# Altium schematic symbol library ON Semi Logic Multifunction.SchLib: 34 symbols
Pins are listed as number, name and electrical type; pins without a type are passive.

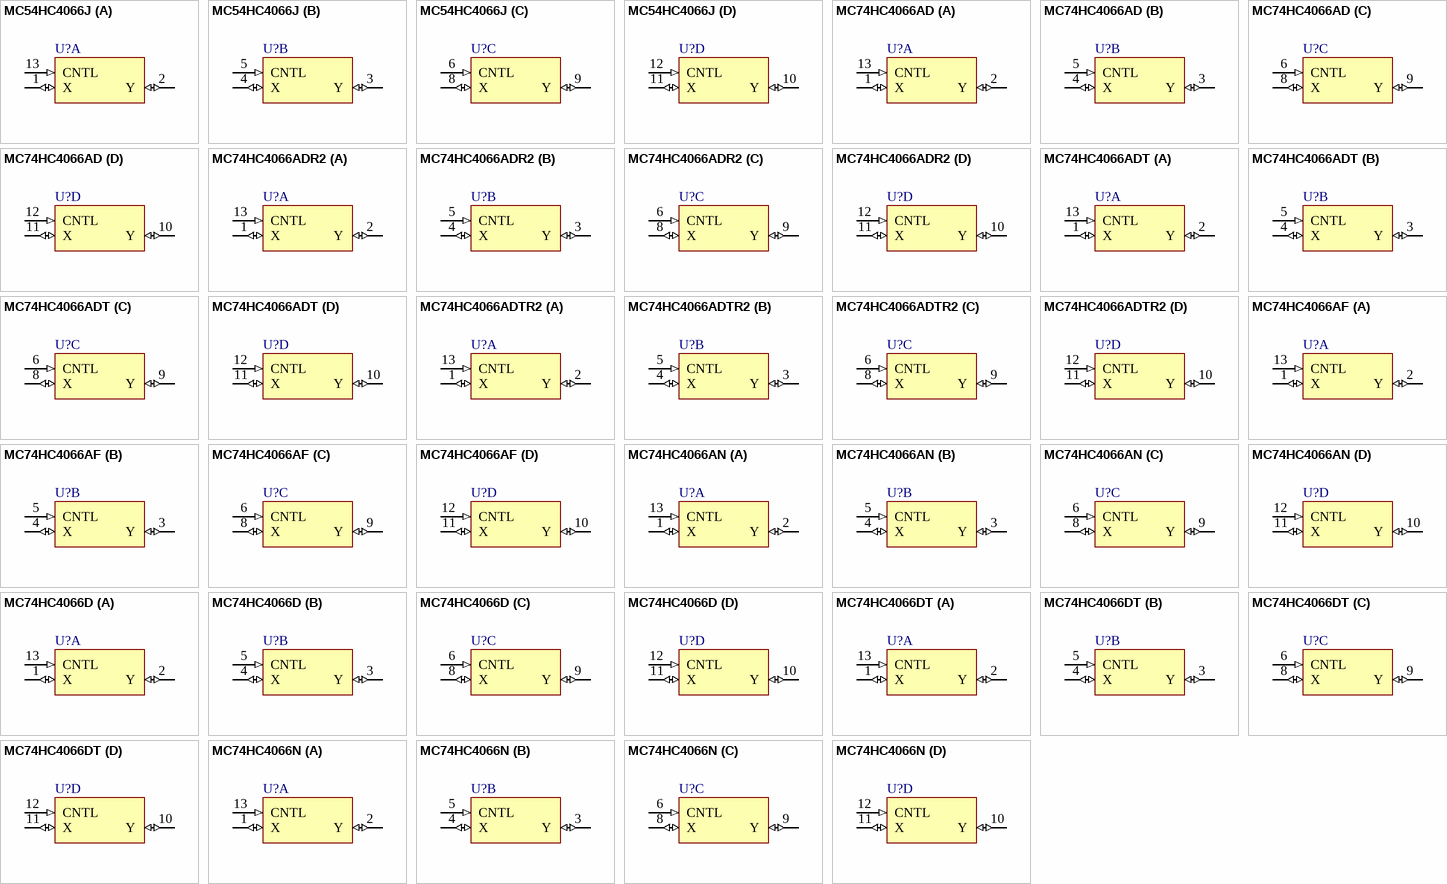
[diagram p0: symbols MC54HC4066J to MC74HC4066N]

## MC54HC4066J
designator U?
Quad Analog Switch/Multiplexer/Demultiplexer; Published: 15-Apr-2002; DatasheetVersion: 1995; PackageVersion: 1995; PackageReference: 632-08; Publisher: Altium Limited; PackageDescription: DIP; 14 Leads; Row Spacing 7.62 mm; Pitch 2.54 mm; ComponentLink1Description: Manufacturer Link; ComponentLink1URL: http://www.onsemi.com/; ComponentLink2Description: Datasheet; ComponentLink2URL: http://www.onsemi.com/pub/Collateral/MC74HC4066-D.PDF
footprint 632-08 (DIP; 14 Leads; Row Spacing 7.62 mm; Pitch 2.54 mm)
signal-integrity model MC54HC4066J
pins on every part: 7 GND (power) hidden to GND, 14 VCC (power) hidden to VCC
part A pins: 1 X (io), 2 Y (io), 13 CNTL (in)
part B pins: 3 Y (io), 4 X (io), 5 CNTL (in)
part C pins: 6 CNTL (in), 8 X (io), 9 Y (io)
part D pins: 10 Y (io), 11 X (io), 12 CNTL (in)

## MC74HC4066AD
designator U?
Quad Analog Switch/Multiplexer/Demultiplexer; Published: 15-Apr-2002; LatestRevisionDate: 13-Apr-2006; LatestRevisionNote: IPC-7351 Footprint Added.; DatasheetVersion: Mar-2000; PackageReference: 751A-03; Publisher: Altium Limited; PackageDescription: 14-Pin Small Outline Integrated Circuit 1.27 mm Pitch; Code_JEDEC: MS-012-AB; Code_IPC: SOIC127P600-14; ComponentLink1Description: Manufacturer Link; ComponentLink1URL: http://www.onsemi.com/; ComponentLink2Description: Datasheet; ComponentLink2URL: http://www.onsemi.com/pub/Collateral/MC74HC4066A-D.PDF
footprint 751A-03_N (SOIC, 14-Leads, Body 8.7x3.9mm, Pitch 1.27mm, IPC Medium Density)
footprint 751A-03_L (SOIC, 14-Leads, Body 8.7x3.9mm, Pitch 1.27mm, IPC High Density)
footprint 751A-03_M (SOIC, 14-Leads, Body 8.7x3.9mm, Pitch 1.27mm, IPC Low Density)
signal-integrity model MC74HC4066AD
pins on every part: 7 GND (power) hidden to GND, 14 VCC (power) hidden to VCC
part A pins: 1 X (io), 2 Y (io), 13 CNTL (in)
part B pins: 3 Y (io), 4 X (io), 5 CNTL (in)
part C pins: 6 CNTL (in), 8 X (io), 9 Y (io)
part D pins: 10 Y (io), 11 X (io), 12 CNTL (in)

## MC74HC4066ADR2
designator U?
Quad Analog Switch/Multiplexer/Demultiplexer; Published: 15-Apr-2002; LatestRevisionDate: 13-Apr-2006; LatestRevisionNote: IPC-7351 Footprint Added.; DatasheetVersion: Mar-2000; PackageReference: 751A-03; Publisher: Altium Limited; PackageDescription: 14-Pin Small Outline Integrated Circuit 1.27 mm Pitch; Code_JEDEC: MS-012-AB; Code_IPC: SOIC127P600-14; ComponentLink1Description: Manufacturer Link; ComponentLink1URL: http://www.onsemi.com/; ComponentLink2Description: Datasheet; ComponentLink2URL: http://www.onsemi.com/pub/Collateral/MC74HC4066A-D.PDF
footprint 751A-03_N (SOIC, 14-Leads, Body 8.7x3.9mm, Pitch 1.27mm, IPC Medium Density)
footprint 751A-03_L (SOIC, 14-Leads, Body 8.7x3.9mm, Pitch 1.27mm, IPC High Density)
footprint 751A-03_M (SOIC, 14-Leads, Body 8.7x3.9mm, Pitch 1.27mm, IPC Low Density)
signal-integrity model MC74HC4066ADR2
pins on every part: 7 GND (power) hidden to GND, 14 VCC (power) hidden to VCC
part A pins: 1 X (io), 2 Y (io), 13 CNTL (in)
part B pins: 3 Y (io), 4 X (io), 5 CNTL (in)
part C pins: 6 CNTL (in), 8 X (io), 9 Y (io)
part D pins: 10 Y (io), 11 X (io), 12 CNTL (in)

## MC74HC4066ADT
designator U?
Quad Analog Switch/Multiplexer/Demultiplexer; ComponentAvailability: Not for New Design; Published: 15-Apr-2002; LatestRevisionDate: 12-Dec-2006; LatestRevisionNote: IPC-7351 Footprint Added.; DatasheetVersion: Mar-2000; PackageVersion: 1998; PackageReference: 948G-01; Publisher: Altium Limited; PackageDescription: 14-Pin Thin Small Outline Package 0.65 mm Pitch; ComponentLink1Description: Manufacturer Link; ComponentLink1URL: http://www.onsemi.com/; ComponentLink2Description: Datasheet; ComponentLink2URL: http://www.onsemi.com/pub/Collateral/MC74HC4066A-D.PDF
footprint 948G-01_N (TSOP, 14-Leads, Body 5x4.4mm, Pitch 0.65mm, IPC Medium Density)
footprint 948G-01_L (TSOP, 14-Leads, Body 5x4.4mm, Pitch 0.65mm, IPC High Density)
footprint 948G-01_M (TSOP, 14-Leads, Body 5x4.4mm, Pitch 0.65mm, IPC Low Density)
signal-integrity model MC74HC4066ADT
pins on every part: 7 GND (power) hidden to GND, 14 VCC (power) hidden to VCC
part A pins: 1 X (io), 2 Y (io), 13 CNTL (in)
part B pins: 3 Y (io), 4 X (io), 5 CNTL (in)
part C pins: 6 CNTL (in), 8 X (io), 9 Y (io)
part D pins: 10 Y (io), 11 X (io), 12 CNTL (in)

## MC74HC4066ADTR2
designator U?
Quad Analog Switch/Multiplexer/Demultiplexer; Published: 15-Apr-2002; LatestRevisionDate: 12-Dec-2006; LatestRevisionNote: IPC-7351 Footprint Added.; DatasheetVersion: Mar-2000; PackageVersion: 1998; PackageReference: 948G-01; Publisher: Altium Limited; PackageDescription: 14-Pin Thin Small Outline Package 0.65 mm Pitch; ComponentLink1Description: Manufacturer Link; ComponentLink1URL: http://www.onsemi.com/; ComponentLink2Description: Datasheet; ComponentLink2URL: http://www.onsemi.com/pub/Collateral/MC74HC4066A-D.PDF
footprint 948G-01_N (TSOP, 14-Leads, Body 5x4.4mm, Pitch 0.65mm, IPC Medium Density)
footprint 948G-01_L (TSOP, 14-Leads, Body 5x4.4mm, Pitch 0.65mm, IPC High Density)
footprint 948G-01_M (TSOP, 14-Leads, Body 5x4.4mm, Pitch 0.65mm, IPC Low Density)
signal-integrity model MC74HC4066ADTR2
pins on every part: 7 GND (power) hidden to GND, 14 VCC (power) hidden to VCC
part A pins: 1 X (io), 2 Y (io), 13 CNTL (in)
part B pins: 3 Y (io), 4 X (io), 5 CNTL (in)
part C pins: 6 CNTL (in), 8 X (io), 9 Y (io)
part D pins: 10 Y (io), 11 X (io), 12 CNTL (in)

## MC74HC4066AF
designator U?
Quad Analog Switch/Multiplexer/Demultiplexer; ComponentAvailability: Not for New Design; Published: 15-Apr-2002; LatestRevisionDate: 13-Apr-2006; LatestRevisionNote: IPC-7351 Footprint Added.; DatasheetVersion: Mar-2000; PackageVersion: 1996; PackageReference: 965-01; Publisher: Altium Limited; PackageDescription: 14-Pin Small Outline Package 1.27 mm Pitch; ComponentLink1Description: Manufacturer Link; ComponentLink1URL: http://www.onsemi.com/; ComponentLink2Description: Datasheet; ComponentLink2URL: http://www.onsemi.com/pub/Collateral/MC74HC4066A-D.PDF
footprint 965-01_N (SOP, 14-Leads, Body 10.2x5.3mm, Pitch 1.27mm, IPC Medium Density)
footprint 965-01_L (SOP, 14-Leads, Body 10.2x5.3mm, Pitch 1.27mm, IPC High Density)
footprint 965-01_M (SOP, 14-Leads, Body 10.2x5.3mm, Pitch 1.27mm, IPC Low Density)
signal-integrity model MC74HC4066AF
pins on every part: 7 GND (power) hidden to GND, 14 VCC (power) hidden to VCC
part A pins: 1 X (io), 2 Y (io), 13 CNTL (in)
part B pins: 3 Y (io), 4 X (io), 5 CNTL (in)
part C pins: 6 CNTL (in), 8 X (io), 9 Y (io)
part D pins: 10 Y (io), 11 X (io), 12 CNTL (in)

## MC74HC4066AN
designator U?
Quad Analog Switch/Multiplexer/Demultiplexer; Published: 15-Apr-2002; DatasheetVersion: Mar-2000; PackageVersion: 1995; PackageReference: 646-06; Publisher: Altium Limited; PackageDescription: DIP; 14 Leads; Row Spacing 7.62 mm; Pitch 2.54 mm; ComponentLink1Description: Manufacturer Link; ComponentLink1URL: http://www.onsemi.com/; ComponentLink2Description: Datasheet; ComponentLink2URL: http://www.onsemi.com/pub/Collateral/MC74HC4066A-D.PDF
footprint 646-06 (DIP; 14 Leads; Row Spacing 7.62 mm; Pitch 2.54 mm)
signal-integrity model MC74HC4066AN
pins on every part: 7 GND (power) hidden to GND, 14 VCC (power) hidden to VCC
part A pins: 1 X (io), 2 Y (io), 13 CNTL (in)
part B pins: 3 Y (io), 4 X (io), 5 CNTL (in)
part C pins: 6 CNTL (in), 8 X (io), 9 Y (io)
part D pins: 10 Y (io), 11 X (io), 12 CNTL (in)

## MC74HC4066D
designator U?
Quad Analog Switch/Multiplexer/Demultiplexer; Published: 15-Apr-2002; LatestRevisionDate: 13-Apr-2006; LatestRevisionNote: IPC-7351 Footprint Added.; DatasheetVersion: 1995; PackageReference: 751A-03; Publisher: Altium Limited; PackageDescription: 14-Pin Small Outline Integrated Circuit 1.27 mm Pitch; Code_JEDEC: MS-012-AB; Code_IPC: SOIC127P600-14; ComponentLink1Description: Manufacturer Link; ComponentLink1URL: http://www.onsemi.com/; ComponentLink2Description: Datasheet; ComponentLink2URL: http://www.onsemi.com/pub/Collateral/MC74HC4066-D.PDF
footprint 751A-03_N (SOIC, 14-Leads, Body 8.7x3.9mm, Pitch 1.27mm, IPC Medium Density)
footprint 751A-03_L (SOIC, 14-Leads, Body 8.7x3.9mm, Pitch 1.27mm, IPC High Density)
footprint 751A-03_M (SOIC, 14-Leads, Body 8.7x3.9mm, Pitch 1.27mm, IPC Low Density)
signal-integrity model MC74HC4066D
pins on every part: 7 GND (power) hidden to GND, 14 VCC (power) hidden to VCC
part A pins: 1 X (io), 2 Y (io), 13 CNTL (in)
part B pins: 3 Y (io), 4 X (io), 5 CNTL (in)
part C pins: 6 CNTL (in), 8 X (io), 9 Y (io)
part D pins: 10 Y (io), 11 X (io), 12 CNTL (in)

## MC74HC4066DT
designator U?
Quad Analog Switch/Multiplexer/Demultiplexer; Published: 15-Apr-2002; LatestRevisionDate: 12-Dec-2006; LatestRevisionNote: IPC-7351 Footprint Added.; DatasheetVersion: 1995; PackageVersion: 1998; PackageReference: 948G-01; Publisher: Altium Limited; PackageDescription: 14-Pin Thin Small Outline Package 0.65 mm Pitch; ComponentLink1Description: Manufacturer Link; ComponentLink1URL: http://www.onsemi.com/; ComponentLink2Description: Datasheet; ComponentLink2URL: http://www.onsemi.com/pub/Collateral/MC74HC4066-D.PDF
footprint 948G-01_N (TSOP, 14-Leads, Body 5x4.4mm, Pitch 0.65mm, IPC Medium Density)
footprint 948G-01_L (TSOP, 14-Leads, Body 5x4.4mm, Pitch 0.65mm, IPC High Density)
footprint 948G-01_M (TSOP, 14-Leads, Body 5x4.4mm, Pitch 0.65mm, IPC Low Density)
signal-integrity model MC74HC4066DT
pins on every part: 7 GND (power) hidden to GND, 14 VCC (power) hidden to VCC
part A pins: 1 X (io), 2 Y (io), 13 CNTL (in)
part B pins: 3 Y (io), 4 X (io), 5 CNTL (in)
part C pins: 6 CNTL (in), 8 X (io), 9 Y (io)
part D pins: 10 Y (io), 11 X (io), 12 CNTL (in)

## MC74HC4066N
designator U?
Quad Analog Switch/Multiplexer/Demultiplexer; Published: 15-Apr-2002; DatasheetVersion: 1995; PackageVersion: 1995; PackageReference: 646-06; Publisher: Altium Limited; PackageDescription: DIP; 14 Leads; Row Spacing 7.62 mm; Pitch 2.54 mm; ComponentLink1Description: Manufacturer Link; ComponentLink1URL: http://www.onsemi.com/; ComponentLink2Description: Datasheet; ComponentLink2URL: http://www.onsemi.com/pub/Collateral/MC74HC4066-D.PDF
footprint 646-06 (DIP; 14 Leads; Row Spacing 7.62 mm; Pitch 2.54 mm)
signal-integrity model MC74HC4066N
pins on every part: 7 GND (power) hidden to GND, 14 VCC (power) hidden to VCC
part A pins: 1 X (io), 2 Y (io), 13 CNTL (in)
part B pins: 3 Y (io), 4 X (io), 5 CNTL (in)
part C pins: 6 CNTL (in), 8 X (io), 9 Y (io)
part D pins: 10 Y (io), 11 X (io), 12 CNTL (in)

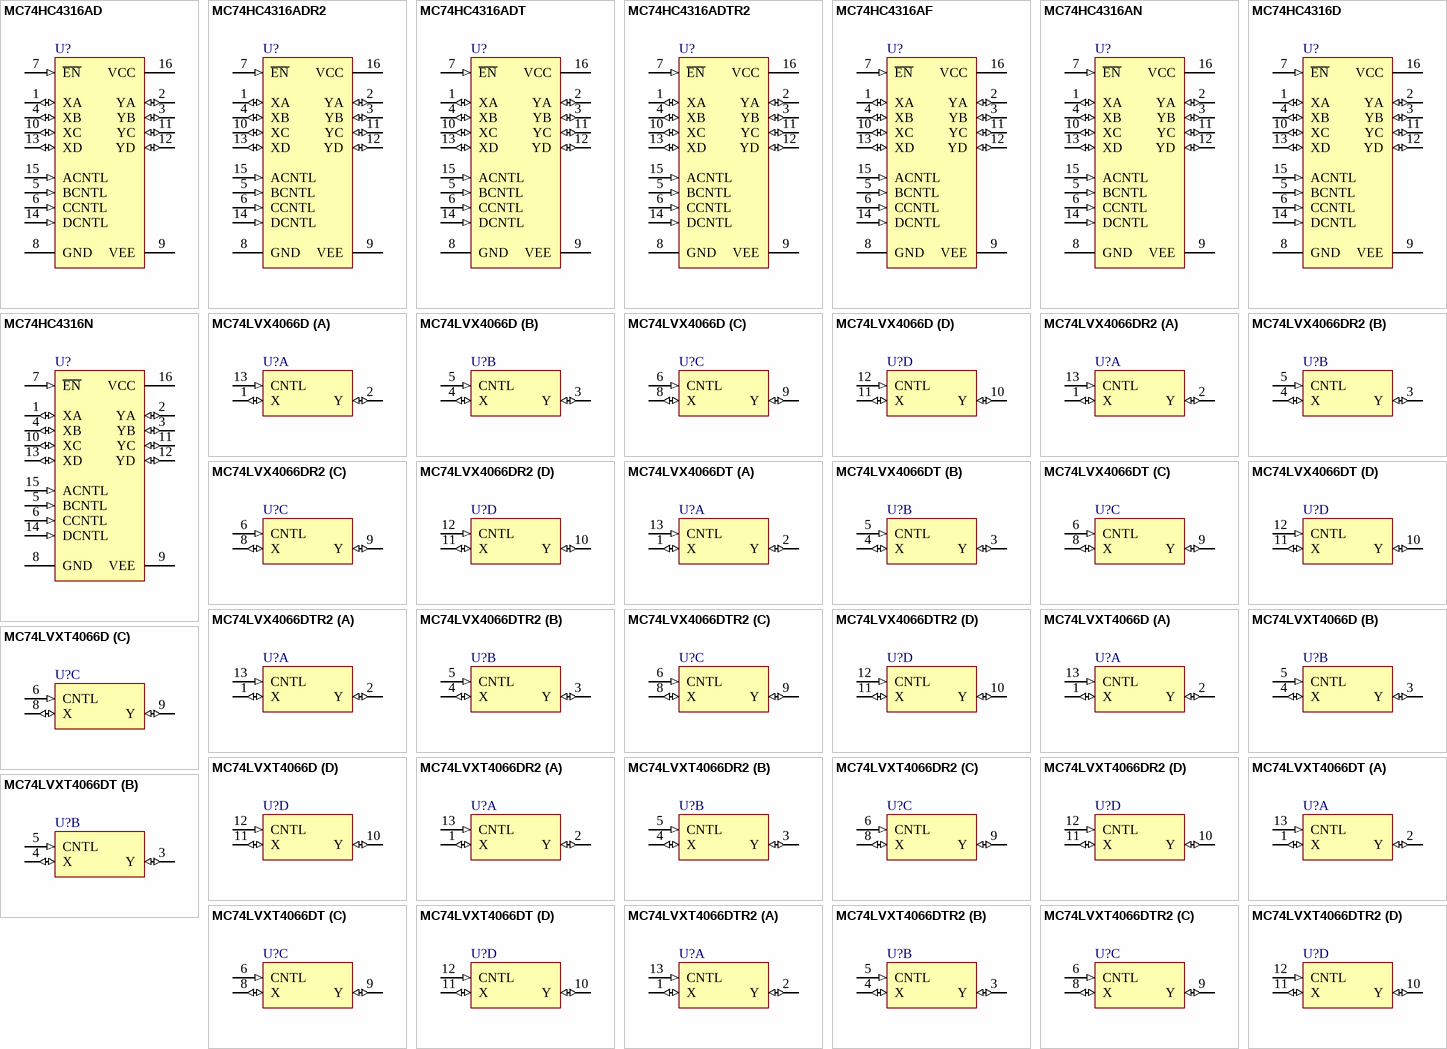
[diagram p1: symbols MC74HC4316AD to MC74LVXT4066DTR2]

## MC74HC4316AD
designator U?
Quad Analog Switch/Multiplexer/Demultiplexer with Separate Analog and Digital Power Supplies; Note: Unused inputs must always be tied.  Unused outputs must be left open.; ComponentAvailability: Not for New Design; Published: 15-Apr-2002; LatestRevisionDate: 13-Apr-2006; LatestRevisionNote: IPC-7351 Footprint Added.; DatasheetVersion: Mar-2000; PackageVersion: Oct-1999; PackageReference: 751B-05; Publisher: Altium Limited; PackageDescription: 16-Pin Small Outline Integrated Circuit 1.27 mm Pitch; Code_JEDEC: MS-012-AC; Code_IPC: SOIC127P600-16; ComponentLink1Description: Manufacturer Link; ComponentLink1URL: http://www.onsemi.com/; ComponentLink2Description: Datasheet; ComponentLink2URL: http://www.onsemi.com/pub/Collateral/MC74HC4316A-D.PDF
footprint 751B-05_N (SOIC, 16-Leads, Body 9.9x3.9mm, Pitch 1.27mm, IPC Medium Density)
footprint 751B-05_L (SOIC, 16-Leads, Body 9.9x3.9mm, Pitch 1.27mm, IPC High Density)
footprint 751B-05_M (SOIC, 16-Leads, Body 9.9x3.9mm, Pitch 1.27mm, IPC Low Density)
signal-integrity model MC74HC4316AD
pins: 1 XA (io), 2 YA (io), 3 YB (io), 4 XB (io), 5 BCNTL (in), 6 CCNTL (in), 7 ~{EN} (in), 8 GND (power), 9 VEE (power), 10 XC (io), 11 YC (io), 12 YD (io), 13 XD (io), 14 DCNTL (in), 15 ACNTL (in), 16 VCC (power)

## MC74HC4316ADR2
designator U?
Quad Analog Switch/Multiplexer/Demultiplexer with Separate Analog and Digital Power Supplies; Note: Unused inputs must always be tied.  Unused outputs must be left open.; Published: 15-Apr-2002; LatestRevisionDate: 13-Apr-2006; LatestRevisionNote: IPC-7351 Footprint Added.; DatasheetVersion: Mar-2000; PackageVersion: Oct-1999; PackageReference: 751B-05; Publisher: Altium Limited; PackageDescription: 16-Pin Small Outline Integrated Circuit 1.27 mm Pitch; Code_JEDEC: MS-012-AC; Code_IPC: SOIC127P600-16; ComponentLink1Description: Manufacturer Link; ComponentLink1URL: http://www.onsemi.com/; ComponentLink2Description: Datasheet; ComponentLink2URL: http://www.onsemi.com/pub/Collateral/MC74HC4316A-D.PDF
footprint 751B-05_N (SOIC, 16-Leads, Body 9.9x3.9mm, Pitch 1.27mm, IPC Medium Density)
footprint 751B-05_L (SOIC, 16-Leads, Body 9.9x3.9mm, Pitch 1.27mm, IPC High Density)
footprint 751B-05_M (SOIC, 16-Leads, Body 9.9x3.9mm, Pitch 1.27mm, IPC Low Density)
signal-integrity model MC74HC4316ADR2
pins: 1 XA (io), 2 YA (io), 3 YB (io), 4 XB (io), 5 BCNTL (in), 6 CCNTL (in), 7 ~{EN} (in), 8 GND (power), 9 VEE (power), 10 XC (io), 11 YC (io), 12 YD (io), 13 XD (io), 14 DCNTL (in), 15 ACNTL (in), 16 VCC (power)

## MC74HC4316ADT
designator U?
Quad Analog Switch/Multiplexer/Demultiplexer with Separate Analog and Digital Power Supplies; Note: Unused inputs must always be tied.  Unused outputs must be left open.; Published: 15-Apr-2002; LatestRevisionDate: 12-Dec-2006; LatestRevisionNote: IPC-7351 Footprint Added.; DatasheetVersion: Mar-2000; PackageVersion: Feb-2000; PackageReference: 948F-01; Publisher: Altium Limited; PackageDescription: 16-Pin Thin Small Outline Package 0.65 mm Pitch; ComponentLink1Description: Manufacturer Link; ComponentLink1URL: http://www.onsemi.com/; ComponentLink2Description: Datasheet; ComponentLink2URL: http://www.onsemi.com/pub/Collateral/MC74HC4316A-D.PDF
footprint 948F-01_N (TSOP, 16-Leads, Body 5x4.4mm, Pitch 0.65mm, IPC Medium Density)
footprint 948F-01_L (TSOP, 16-Leads, Body 5x4.4mm, Pitch 0.65mm, IPC High Density)
footprint 948F-01_M (TSOP, 16-Leads, Body 5x4.4mm, Pitch 0.65mm, IPC Low Density)
signal-integrity model MC74HC4316ADT
pins: 1 XA (io), 2 YA (io), 3 YB (io), 4 XB (io), 5 BCNTL (in), 6 CCNTL (in), 7 ~{EN} (in), 8 GND (power), 9 VEE (power), 10 XC (io), 11 YC (io), 12 YD (io), 13 XD (io), 14 DCNTL (in), 15 ACNTL (in), 16 VCC (power)

## MC74HC4316ADTR2
designator U?
Quad Analog Switch/Multiplexer/Demultiplexer with Separate Analog and Digital Power Supplies; Note: Unused inputs must always be tied.  Unused outputs must be left open.; Published: 15-Apr-2002; LatestRevisionDate: 12-Dec-2006; LatestRevisionNote: IPC-7351 Footprint Added.; DatasheetVersion: Mar-2000; PackageVersion: Feb-2000; PackageReference: 948F-01; Publisher: Altium Limited; PackageDescription: 16-Pin Thin Small Outline Package 0.65 mm Pitch; ComponentLink1Description: Manufacturer Link; ComponentLink1URL: http://www.onsemi.com/; ComponentLink2Description: Datasheet; ComponentLink2URL: http://www.onsemi.com/pub/Collateral/MC74HC4316A-D.PDF
footprint 948F-01_N (TSOP, 16-Leads, Body 5x4.4mm, Pitch 0.65mm, IPC Medium Density)
footprint 948F-01_L (TSOP, 16-Leads, Body 5x4.4mm, Pitch 0.65mm, IPC High Density)
footprint 948F-01_M (TSOP, 16-Leads, Body 5x4.4mm, Pitch 0.65mm, IPC Low Density)
signal-integrity model MC74HC4316ADTR2
pins: 1 XA (io), 2 YA (io), 3 YB (io), 4 XB (io), 5 BCNTL (in), 6 CCNTL (in), 7 ~{EN} (in), 8 GND (power), 9 VEE (power), 10 XC (io), 11 YC (io), 12 YD (io), 13 XD (io), 14 DCNTL (in), 15 ACNTL (in), 16 VCC (power)

## MC74HC4316AF
designator U?
Quad Analog Switch/Multiplexer/Demultiplexer with Separate Analog and Digital Power Supplies; Note: Unused inputs must always be tied.  Unused outputs must be left open.; Published: 15-Apr-2002; LatestRevisionDate: 13-Apr-2006; LatestRevisionNote: IPC-7351 Footprint Added.; DatasheetVersion: Mar-2000; PackageVersion: 1997; PackageReference: 966-01; Publisher: Altium Limited; PackageDescription: 16-Pin Small Outline Package 1.27 mm Pitch; ComponentLink1Description: Manufacturer Link; ComponentLink1URL: http://www.onsemi.com/; ComponentLink2Description: Datasheet; ComponentLink2URL: http://www.onsemi.com/pub/Collateral/MC74HC4316A-D.PDF
footprint 966-01_N (SOP, 16-Leads, Body 10.2x5.3mm, Pitch 1.27mm, IPC Medium Density)
footprint 966-01_L (SOP, 16-Leads, Body 10.2x5.3mm, Pitch 1.27mm, IPC High Density)
footprint 966-01_M (SOP, 16-Leads, Body 10.2x5.3mm, Pitch 1.27mm, IPC Low Density)
signal-integrity model MC74HC4316AF
pins: 1 XA (io), 2 YA (io), 3 YB (io), 4 XB (io), 5 BCNTL (in), 6 CCNTL (in), 7 ~{EN} (in), 8 GND (power), 9 VEE (power), 10 XC (io), 11 YC (io), 12 YD (io), 13 XD (io), 14 DCNTL (in), 15 ACNTL (in), 16 VCC (power)

## MC74HC4316AN
designator U?
Quad Analog Switch/Multiplexer/Demultiplexer with Separate Analog and Digital Power Supplies; Note: Unused inputs must always be tied.  Unused outputs must be left open.; Published: 15-Apr-2002; DatasheetVersion: Mar-2000; PackageVersion: Apr-2000; PackageReference: 648-08; Publisher: Altium Limited; PackageDescription: DIP; 16 Leads; Row Spacing 7.62 mm; Pitch 2.54 mm; Code_JEDEC: MS-001-BB; ComponentLink1Description: Manufacturer Link; ComponentLink1URL: http://www.onsemi.com/; ComponentLink2Description: Datasheet; ComponentLink2URL: http://www.onsemi.com/pub/Collateral/MC74HC4316A-D.PDF
footprint 648-08 (DIP; 16 Leads; Row Spacing 7.62 mm; Pitch 2.54 mm)
signal-integrity model MC74HC4316AN
pins: 1 XA (io), 2 YA (io), 3 YB (io), 4 XB (io), 5 BCNTL (in), 6 CCNTL (in), 7 ~{EN} (in), 8 GND (power), 9 VEE (power), 10 XC (io), 11 YC (io), 12 YD (io), 13 XD (io), 14 DCNTL (in), 15 ACNTL (in), 16 VCC (power)

## MC74HC4316D
designator U?
Quad Analog Switch/Multiplexer/Demultiplexer with Separate Analog and Digital Power Supplies; Published: 15-Apr-2002; LatestRevisionDate: 13-Apr-2006; LatestRevisionNote: IPC-7351 Footprint Added.; DatasheetVersion: Oct-1995; PackageVersion: Oct-1999; PackageReference: 751B-05; Publisher: Altium Limited; PackageDescription: 16-Pin Small Outline Integrated Circuit 1.27 mm Pitch; Code_JEDEC: MS-012-AC; Code_IPC: SOIC127P600-16; ComponentLink1Description: Manufacturer Link; ComponentLink1URL: http://www.onsemi.com/; ComponentLink2Description: Datasheet; ComponentLink2URL: http://www.onsemi.com/pub/Collateral/MC74HC4316-D.PDF
footprint 751B-05_N (SOIC, 16-Leads, Body 9.9x3.9mm, Pitch 1.27mm, IPC Medium Density)
footprint 751B-05_L (SOIC, 16-Leads, Body 9.9x3.9mm, Pitch 1.27mm, IPC High Density)
footprint 751B-05_M (SOIC, 16-Leads, Body 9.9x3.9mm, Pitch 1.27mm, IPC Low Density)
signal-integrity model MC74HC4316D
pins: 1 XA (io), 2 YA (io), 3 YB (io), 4 XB (io), 5 BCNTL (in), 6 CCNTL (in), 7 ~{EN} (in), 8 GND (power), 9 VEE (power), 10 XC (io), 11 YC (io), 12 YD (io), 13 XD (io), 14 DCNTL (in), 15 ACNTL (in), 16 VCC (power)

## MC74HC4316N
designator U?
Quad Analog Switch/Multiplexer/Demultiplexer with Separate Analog and Digital Power Supplies; Published: 15-Apr-2002; DatasheetVersion: Oct-1995; PackageVersion: Apr-2000; PackageReference: 648-08; Publisher: Altium Limited; PackageDescription: DIP; 16 Leads; Row Spacing 7.62 mm; Pitch 2.54 mm; Code_JEDEC: MS-001-BB; ComponentLink1Description: Manufacturer Link; ComponentLink1URL: http://www.onsemi.com/; ComponentLink2Description: Datasheet; ComponentLink2URL: http://www.onsemi.com/pub/Collateral/MC74HC4316-D.PDF
footprint 648-08 (DIP; 16 Leads; Row Spacing 7.62 mm; Pitch 2.54 mm)
signal-integrity model MC74HC4316N
pins: 1 XA (io), 2 YA (io), 3 YB (io), 4 XB (io), 5 BCNTL (in), 6 CCNTL (in), 7 ~{EN} (in), 8 GND (power), 9 VEE (power), 10 XC (io), 11 YC (io), 12 YD (io), 13 XD (io), 14 DCNTL (in), 15 ACNTL (in), 16 VCC (power)

## MC74LVX4066D
designator U?
Quad Analog Switch/Multiplexer/Demultiplexer; ComponentAvailability: Not for New Design; Published: 15-Apr-2002; LatestRevisionDate: 13-Apr-2006; LatestRevisionNote: IPC-7351 Footprint Added.; DatasheetVersion: Mar-2000; PackageReference: 751A-03; Publisher: Altium Limited; PackageDescription: 14-Pin Small Outline Integrated Circuit 1.27 mm Pitch; Code_JEDEC: MS-012-AB; Code_IPC: SOIC127P600-14; ComponentLink1Description: Manufacturer Link; ComponentLink1URL: http://www.onsemi.com/; ComponentLink2Description: Datasheet; ComponentLink2URL: http://www.onsemi.com/pub/Collateral/MC74LVX4066-D.PDF
footprint 751A-03_N (SOIC, 14-Leads, Body 8.7x3.9mm, Pitch 1.27mm, IPC Medium Density)
footprint 751A-03_L (SOIC, 14-Leads, Body 8.7x3.9mm, Pitch 1.27mm, IPC High Density)
footprint 751A-03_M (SOIC, 14-Leads, Body 8.7x3.9mm, Pitch 1.27mm, IPC Low Density)
pins on every part: 7 GND (power) hidden to GND, 14 VCC (power) hidden to VCC
part A pins: 1 X (io), 2 Y (io), 13 CNTL (in)
part B pins: 3 Y (io), 4 X (io), 5 CNTL (in)
part C pins: 6 CNTL (in), 8 X (io), 9 Y (io)
part D pins: 10 Y (io), 11 X (io), 12 CNTL (in)

## MC74LVX4066DR2
designator U?
Quad Analog Switch/Multiplexer/Demultiplexer; Published: 15-Apr-2002; LatestRevisionDate: 13-Apr-2006; LatestRevisionNote: IPC-7351 Footprint Added.; DatasheetVersion: Mar-2000; PackageReference: 751A-03; Publisher: Altium Limited; PackageDescription: 14-Pin Small Outline Integrated Circuit 1.27 mm Pitch; Code_JEDEC: MS-012-AB; Code_IPC: SOIC127P600-14; ComponentLink1Description: Manufacturer Link; ComponentLink1URL: http://www.onsemi.com/; ComponentLink2Description: Datasheet; ComponentLink2URL: http://www.onsemi.com/pub/Collateral/MC74LVX4066-D.PDF
footprint 751A-03_N (SOIC, 14-Leads, Body 8.7x3.9mm, Pitch 1.27mm, IPC Medium Density)
footprint 751A-03_L (SOIC, 14-Leads, Body 8.7x3.9mm, Pitch 1.27mm, IPC High Density)
footprint 751A-03_M (SOIC, 14-Leads, Body 8.7x3.9mm, Pitch 1.27mm, IPC Low Density)
pins on every part: 7 GND (power) hidden to GND, 14 VCC (power) hidden to VCC
part A pins: 1 X (io), 2 Y (io), 13 CNTL (in)
part B pins: 3 Y (io), 4 X (io), 5 CNTL (in)
part C pins: 6 CNTL (in), 8 X (io), 9 Y (io)
part D pins: 10 Y (io), 11 X (io), 12 CNTL (in)

## MC74LVX4066DT
designator U?
Quad Analog Switch/Multiplexer/Demultiplexer; ComponentAvailability: Not for New Design; Published: 15-Apr-2002; LatestRevisionDate: 12-Dec-2006; LatestRevisionNote: IPC-7351 Footprint Added.; DatasheetVersion: Mar-2000; PackageVersion: 1998; PackageReference: 948G-01; Publisher: Altium Limited; PackageDescription: 14-Pin Thin Small Outline Package 0.65 mm Pitch; ComponentLink1Description: Manufacturer Link; ComponentLink1URL: http://www.onsemi.com/; ComponentLink2Description: Datasheet; ComponentLink2URL: http://www.onsemi.com/pub/Collateral/MC74LVX4066-D.PDF
footprint 948G-01_N (TSOP, 14-Leads, Body 5x4.4mm, Pitch 0.65mm, IPC Medium Density)
footprint 948G-01_L (TSOP, 14-Leads, Body 5x4.4mm, Pitch 0.65mm, IPC High Density)
footprint 948G-01_M (TSOP, 14-Leads, Body 5x4.4mm, Pitch 0.65mm, IPC Low Density)
pins on every part: 7 GND (power) hidden to GND, 14 VCC (power) hidden to VCC
part A pins: 1 X (io), 2 Y (io), 13 CNTL (in)
part B pins: 3 Y (io), 4 X (io), 5 CNTL (in)
part C pins: 6 CNTL (in), 8 X (io), 9 Y (io)
part D pins: 10 Y (io), 11 X (io), 12 CNTL (in)

## MC74LVX4066DTR2
designator U?
Quad Analog Switch/Multiplexer/Demultiplexer; Published: 15-Apr-2002; LatestRevisionDate: 12-Dec-2006; LatestRevisionNote: IPC-7351 Footprint Added.; DatasheetVersion: Mar-2000; PackageVersion: 1998; PackageReference: 948G-01; Publisher: Altium Limited; PackageDescription: 14-Pin Thin Small Outline Package 0.65 mm Pitch; ComponentLink1Description: Manufacturer Link; ComponentLink1URL: http://www.onsemi.com/; ComponentLink2Description: Datasheet; ComponentLink2URL: http://www.onsemi.com/pub/Collateral/MC74LVX4066-D.PDF
footprint 948G-01_N (TSOP, 14-Leads, Body 5x4.4mm, Pitch 0.65mm, IPC Medium Density)
footprint 948G-01_L (TSOP, 14-Leads, Body 5x4.4mm, Pitch 0.65mm, IPC High Density)
footprint 948G-01_M (TSOP, 14-Leads, Body 5x4.4mm, Pitch 0.65mm, IPC Low Density)
pins on every part: 7 GND (power) hidden to GND, 14 VCC (power) hidden to VCC
part A pins: 1 X (io), 2 Y (io), 13 CNTL (in)
part B pins: 3 Y (io), 4 X (io), 5 CNTL (in)
part C pins: 6 CNTL (in), 8 X (io), 9 Y (io)
part D pins: 10 Y (io), 11 X (io), 12 CNTL (in)

## MC74LVXT4066D
designator U?
Quad Analog Switch/Multiplexer/Demultiplexer; Published: 15-Apr-2002; LatestRevisionDate: 13-Apr-2006; LatestRevisionNote: IPC-7351 Footprint Added.; DatasheetVersion: Mar-2000; PackageReference: 751A-03; Publisher: Altium Limited; PackageDescription: 14-Pin Small Outline Integrated Circuit 1.27 mm Pitch; Code_JEDEC: MS-012-AB; Code_IPC: SOIC127P600-14; ComponentLink1Description: Manufacturer Link; ComponentLink1URL: http://www.onsemi.com/; ComponentLink2Description: Datasheet; ComponentLink2URL: http://www.onsemi.com/pub/Collateral/MC74LVXT4066-D.PDF
footprint 751A-03_N (SOIC, 14-Leads, Body 8.7x3.9mm, Pitch 1.27mm, IPC Medium Density)
footprint 751A-03_L (SOIC, 14-Leads, Body 8.7x3.9mm, Pitch 1.27mm, IPC High Density)
footprint 751A-03_M (SOIC, 14-Leads, Body 8.7x3.9mm, Pitch 1.27mm, IPC Low Density)
pins on every part: 7 GND (power) hidden to GND, 14 VCC (power) hidden to VCC
part A pins: 1 X (io), 2 Y (io), 13 CNTL (in)
part B pins: 3 Y (io), 4 X (io), 5 CNTL (in)
part C pins: 6 CNTL (in), 8 X (io), 9 Y (io)
part D pins: 10 Y (io), 11 X (io), 12 CNTL (in)

## MC74LVXT4066DR2
designator U?
Quad Analog Switch/Multiplexer/Demultiplexer; Published: 15-Apr-2002; LatestRevisionDate: 13-Apr-2006; LatestRevisionNote: IPC-7351 Footprint Added.; DatasheetVersion: Mar-2000; PackageReference: 751A-03; Publisher: Altium Limited; PackageDescription: 14-Pin Small Outline Integrated Circuit 1.27 mm Pitch; Code_JEDEC: MS-012-AB; Code_IPC: SOIC127P600-14; ComponentLink1Description: Manufacturer Link; ComponentLink1URL: http://www.onsemi.com/; ComponentLink2Description: Datasheet; ComponentLink2URL: http://www.onsemi.com/pub/Collateral/MC74LVXT4066-D.PDF
footprint 751A-03_N (SOIC, 14-Leads, Body 8.7x3.9mm, Pitch 1.27mm, IPC Medium Density)
footprint 751A-03_L (SOIC, 14-Leads, Body 8.7x3.9mm, Pitch 1.27mm, IPC High Density)
footprint 751A-03_M (SOIC, 14-Leads, Body 8.7x3.9mm, Pitch 1.27mm, IPC Low Density)
pins on every part: 7 GND (power) hidden to GND, 14 VCC (power) hidden to VCC
part A pins: 1 X (io), 2 Y (io), 13 CNTL (in)
part B pins: 3 Y (io), 4 X (io), 5 CNTL (in)
part C pins: 6 CNTL (in), 8 X (io), 9 Y (io)
part D pins: 10 Y (io), 11 X (io), 12 CNTL (in)

## MC74LVXT4066DT
designator U?
Quad Analog Switch/Multiplexer/Demultiplexer; ComponentAvailability: Not for New Design; Published: 15-Apr-2002; LatestRevisionDate: 12-Dec-2006; LatestRevisionNote: IPC-7351 Footprint Added.; DatasheetVersion: Mar-2000; PackageVersion: 1998; PackageReference: 948G-01; Publisher: Altium Limited; PackageDescription: 14-Pin Thin Small Outline Package 0.65 mm Pitch; ComponentLink1Description: Manufacturer Link; ComponentLink1URL: http://www.onsemi.com/; ComponentLink2Description: Datasheet; ComponentLink2URL: http://www.onsemi.com/pub/Collateral/MC74LVXT4066-D.PDF
footprint 948G-01_N (TSOP, 14-Leads, Body 5x4.4mm, Pitch 0.65mm, IPC Medium Density)
footprint 948G-01_L (TSOP, 14-Leads, Body 5x4.4mm, Pitch 0.65mm, IPC High Density)
footprint 948G-01_M (TSOP, 14-Leads, Body 5x4.4mm, Pitch 0.65mm, IPC Low Density)
pins on every part: 7 GND (power) hidden to GND, 14 VCC (power) hidden to VCC
part A pins: 1 X (io), 2 Y (io), 13 CNTL (in)
part B pins: 3 Y (io), 4 X (io), 5 CNTL (in)
part C pins: 6 CNTL (in), 8 X (io), 9 Y (io)
part D pins: 10 Y (io), 11 X (io), 12 CNTL (in)

## MC74LVXT4066DTR2
designator U?
Quad Analog Switch/Multiplexer/Demultiplexer; Published: 15-Apr-2002; LatestRevisionDate: 12-Dec-2006; LatestRevisionNote: IPC-7351 Footprint Added.; DatasheetVersion: Mar-2000; PackageVersion: 1998; PackageReference: 948G-01; Publisher: Altium Limited; PackageDescription: 14-Pin Thin Small Outline Package 0.65 mm Pitch; ComponentLink1Description: Manufacturer Link; ComponentLink1URL: http://www.onsemi.com/; ComponentLink2Description: Datasheet; ComponentLink2URL: http://www.onsemi.com/pub/Collateral/MC74LVXT4066-D.PDF
footprint 948G-01_N (TSOP, 14-Leads, Body 5x4.4mm, Pitch 0.65mm, IPC Medium Density)
footprint 948G-01_L (TSOP, 14-Leads, Body 5x4.4mm, Pitch 0.65mm, IPC High Density)
footprint 948G-01_M (TSOP, 14-Leads, Body 5x4.4mm, Pitch 0.65mm, IPC Low Density)
pins on every part: 7 GND (power) hidden to GND, 14 VCC (power) hidden to VCC
part A pins: 1 X (io), 2 Y (io), 13 CNTL (in)
part B pins: 3 Y (io), 4 X (io), 5 CNTL (in)
part C pins: 6 CNTL (in), 8 X (io), 9 Y (io)
part D pins: 10 Y (io), 11 X (io), 12 CNTL (in)

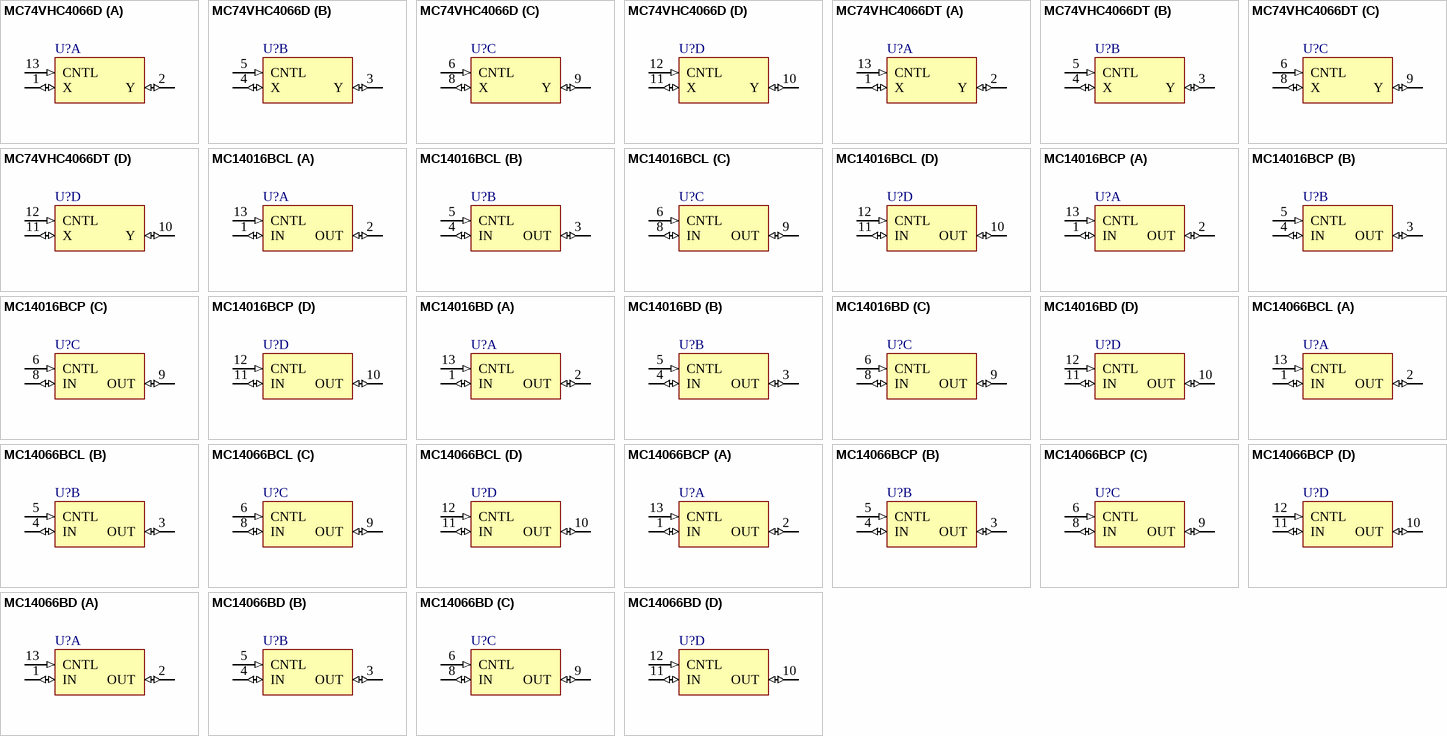
[diagram p2: symbols MC74VHC4066D to MC14066BD]

## MC74VHC4066D
designator U?
Quad Analog Switch/Multiplexer/Demultiplexer; ComponentAvailability: Not for New Design; Published: 15-Apr-2002; LatestRevisionDate: 13-Apr-2006; LatestRevisionNote: IPC-7351 Footprint Added.; DatasheetVersion: 1999; PackageReference: 751A-03; Publisher: Altium Limited; PackageDescription: 14-Pin Small Outline Integrated Circuit 1.27 mm Pitch; Code_JEDEC: MS-012-AB; Code_IPC: SOIC127P600-14; ComponentLink1Description: Manufacturer Link; ComponentLink1URL: http://www.onsemi.com/; ComponentLink2Description: Datasheet; ComponentLink2URL: http://www.onsemi.com/pub/Collateral/MC74VHC4066-D.PDF
footprint 751A-03_N (SOIC, 14-Leads, Body 8.7x3.9mm, Pitch 1.27mm, IPC Medium Density)
footprint 751A-03_L (SOIC, 14-Leads, Body 8.7x3.9mm, Pitch 1.27mm, IPC High Density)
footprint 751A-03_M (SOIC, 14-Leads, Body 8.7x3.9mm, Pitch 1.27mm, IPC Low Density)
pins on every part: 7 GND (power) hidden to GND, 14 VCC (power) hidden to VCC
part A pins: 1 X (io), 2 Y (io), 13 CNTL (in)
part B pins: 3 Y (io), 4 X (io), 5 CNTL (in)
part C pins: 6 CNTL (in), 8 X (io), 9 Y (io)
part D pins: 10 Y (io), 11 X (io), 12 CNTL (in)

## MC74VHC4066DT
designator U?
Quad Analog Switch/Multiplexer/Demultiplexer; ComponentAvailability: Not for New Design; Published: 15-Apr-2002; LatestRevisionDate: 12-Dec-2006; LatestRevisionNote: IPC-7351 Footprint Added.; DatasheetVersion: 1999; PackageVersion: 1998; PackageReference: 948G-01; Publisher: Altium Limited; PackageDescription: 14-Pin Thin Small Outline Package 0.65 mm Pitch; ComponentLink1Description: Manufacturer Link; ComponentLink1URL: http://www.onsemi.com/; ComponentLink2Description: Datasheet; ComponentLink2URL: http://www.onsemi.com/pub/Collateral/MC74VHC4066-D.PDF
footprint 948G-01_N (TSOP, 14-Leads, Body 5x4.4mm, Pitch 0.65mm, IPC Medium Density)
footprint 948G-01_L (TSOP, 14-Leads, Body 5x4.4mm, Pitch 0.65mm, IPC High Density)
footprint 948G-01_M (TSOP, 14-Leads, Body 5x4.4mm, Pitch 0.65mm, IPC Low Density)
pins on every part: 7 GND (power) hidden to GND, 14 VCC (power) hidden to VCC
part A pins: 1 X (io), 2 Y (io), 13 CNTL (in)
part B pins: 3 Y (io), 4 X (io), 5 CNTL (in)
part C pins: 6 CNTL (in), 8 X (io), 9 Y (io)
part D pins: 10 Y (io), 11 X (io), 12 CNTL (in)

## MC14016BCL
designator U?
Quad Analog Switch/Quad Multiplexer; Note: Unused inputs must always be tied.  Unused outputs must be left open.; Published: 15-Apr-2002; DatasheetVersion: 1995; PackageVersion: 1995; PackageReference: 632-08; Publisher: Altium Limited; PackageDescription: DIP; 14 Leads; Row Spacing 7.62 mm; Pitch 2.54 mm; ComponentLink1Description: Manufacturer Link; ComponentLink1URL: http://www.onsemi.com/; ComponentLink2Description: Datasheet; ComponentLink2URL: http://www.onsemi.com/pub/Collateral/MC14016B-D.PDF
footprint 632-08 (DIP; 14 Leads; Row Spacing 7.62 mm; Pitch 2.54 mm)
pins on every part: 7 GND (power) hidden to GND, 14 VDD (power) hidden to VDD
part A pins: 1 IN (io), 2 OUT (io), 13 CNTL (in)
part B pins: 3 OUT (io), 4 IN (io), 5 CNTL (in)
part C pins: 6 CNTL (in), 8 IN (io), 9 OUT (io)
part D pins: 10 OUT (io), 11 IN (io), 12 CNTL (in)

## MC14016BCP
designator U?
Quad Analog Switch/Quad Multiplexer; Note: Unused inputs must always be tied.  Unused outputs must be left open.; Published: 15-Apr-2002; DatasheetVersion: 1995; PackageVersion: 1995; PackageReference: 646-06; Publisher: Altium Limited; PackageDescription: DIP; 14 Leads; Row Spacing 7.62 mm; Pitch 2.54 mm; ComponentLink1Description: Manufacturer Link; ComponentLink1URL: http://www.onsemi.com/; ComponentLink2Description: Datasheet; ComponentLink2URL: http://www.onsemi.com/pub/Collateral/MC14016B-D.PDF
footprint 646-06 (DIP; 14 Leads; Row Spacing 7.62 mm; Pitch 2.54 mm)
pins on every part: 7 GND (power) hidden to GND, 14 VDD (power) hidden to VDD
part A pins: 1 IN (io), 2 OUT (io), 13 CNTL (in)
part B pins: 3 OUT (io), 4 IN (io), 5 CNTL (in)
part C pins: 6 CNTL (in), 8 IN (io), 9 OUT (io)
part D pins: 10 OUT (io), 11 IN (io), 12 CNTL (in)

## MC14016BD
designator U?
Quad Analog Switch/Quad Multiplexer; Note: Unused inputs must always be tied.  Unused outputs must be left open.; Published: 15-Apr-2002; LatestRevisionDate: 13-Apr-2006; LatestRevisionNote: IPC-7351 Footprint Added.; DatasheetVersion: 1995; PackageReference: 751A-03; Publisher: Altium Limited; PackageDescription: 14-Pin Small Outline Integrated Circuit 1.27 mm Pitch; Code_JEDEC: MS-012-AB; Code_IPC: SOIC127P600-14; ComponentLink1Description: Manufacturer Link; ComponentLink1URL: http://www.onsemi.com/; ComponentLink2Description: Datasheet; ComponentLink2URL: http://www.onsemi.com/pub/Collateral/MC14016B-D.PDF
footprint 751A-03_N (SOIC, 14-Leads, Body 8.7x3.9mm, Pitch 1.27mm, IPC Medium Density)
footprint 751A-03_L (SOIC, 14-Leads, Body 8.7x3.9mm, Pitch 1.27mm, IPC High Density)
footprint 751A-03_M (SOIC, 14-Leads, Body 8.7x3.9mm, Pitch 1.27mm, IPC Low Density)
pins on every part: 7 GND (power) hidden to GND, 14 VDD (power) hidden to VDD
part A pins: 1 IN (io), 2 OUT (io), 13 CNTL (in)
part B pins: 3 OUT (io), 4 IN (io), 5 CNTL (in)
part C pins: 6 CNTL (in), 8 IN (io), 9 OUT (io)
part D pins: 10 OUT (io), 11 IN (io), 12 CNTL (in)

## MC14066BCL
designator U?
Quad Analog Switch/Quad Multiplexer; Note: Unused inputs must always be tied.  Unused outputs must be left open.; Published: 15-Apr-2002; DatasheetVersion: 1995; PackageVersion: 1995; PackageReference: 632-08; Publisher: Altium Limited; PackageDescription: DIP; 14 Leads; Row Spacing 7.62 mm; Pitch 2.54 mm; ComponentLink1Description: Manufacturer Link; ComponentLink1URL: http://www.onsemi.com/; ComponentLink2Description: Datasheet; ComponentLink2URL: http://www.onsemi.com/pub/Collateral/MC14066B-D.PDF
footprint 632-08 (DIP; 14 Leads; Row Spacing 7.62 mm; Pitch 2.54 mm)
pins on every part: 7 GND (power) hidden to GND, 14 VDD (power) hidden to VDD
part A pins: 1 IN (io), 2 OUT (io), 13 CNTL (in)
part B pins: 3 OUT (io), 4 IN (io), 5 CNTL (in)
part C pins: 6 CNTL (in), 8 IN (io), 9 OUT (io)
part D pins: 10 OUT (io), 11 IN (io), 12 CNTL (in)

## MC14066BCP
designator U?
Quad Analog Switch/Quad Multiplexer; Note: Unused inputs must always be tied.  Unused outputs must be left open.; Published: 15-Apr-2002; DatasheetVersion: 1995; PackageVersion: 1995; PackageReference: 646-06; Publisher: Altium Limited; PackageDescription: DIP; 14 Leads; Row Spacing 7.62 mm; Pitch 2.54 mm; ComponentLink1Description: Manufacturer Link; ComponentLink1URL: http://www.onsemi.com/; ComponentLink2Description: Datasheet; ComponentLink2URL: http://www.onsemi.com/pub/Collateral/MC14066B-D.PDF
footprint 646-06 (DIP; 14 Leads; Row Spacing 7.62 mm; Pitch 2.54 mm)
pins on every part: 7 GND (power) hidden to GND, 14 VDD (power) hidden to VDD
part A pins: 1 IN (io), 2 OUT (io), 13 CNTL (in)
part B pins: 3 OUT (io), 4 IN (io), 5 CNTL (in)
part C pins: 6 CNTL (in), 8 IN (io), 9 OUT (io)
part D pins: 10 OUT (io), 11 IN (io), 12 CNTL (in)

## MC14066BD
designator U?
Quad Analog Switch/Quad Multiplexer; Note: Unused inputs must always be tied.  Unused outputs must be left open.; Published: 15-Apr-2002; LatestRevisionDate: 13-Apr-2006; LatestRevisionNote: IPC-7351 Footprint Added.; DatasheetVersion: 1995; PackageReference: 751A-03; Publisher: Altium Limited; PackageDescription: 14-Pin Small Outline Integrated Circuit 1.27 mm Pitch; Code_JEDEC: MS-012-AB; Code_IPC: SOIC127P600-14; ComponentLink1Description: Manufacturer Link; ComponentLink1URL: http://www.onsemi.com/; ComponentLink2Description: Datasheet; ComponentLink2URL: http://www.onsemi.com/pub/Collateral/MC14066B-D.PDF
footprint 751A-03_N (SOIC, 14-Leads, Body 8.7x3.9mm, Pitch 1.27mm, IPC Medium Density)
footprint 751A-03_L (SOIC, 14-Leads, Body 8.7x3.9mm, Pitch 1.27mm, IPC High Density)
footprint 751A-03_M (SOIC, 14-Leads, Body 8.7x3.9mm, Pitch 1.27mm, IPC Low Density)
pins on every part: 7 GND (power) hidden to GND, 14 VDD (power) hidden to VDD
part A pins: 1 IN (io), 2 OUT (io), 13 CNTL (in)
part B pins: 3 OUT (io), 4 IN (io), 5 CNTL (in)
part C pins: 6 CNTL (in), 8 IN (io), 9 OUT (io)
part D pins: 10 OUT (io), 11 IN (io), 12 CNTL (in)